# Altium integrated library Microchip Power Management MOSFET Driver.IntLib: 464 symbols (part 7 of 10)
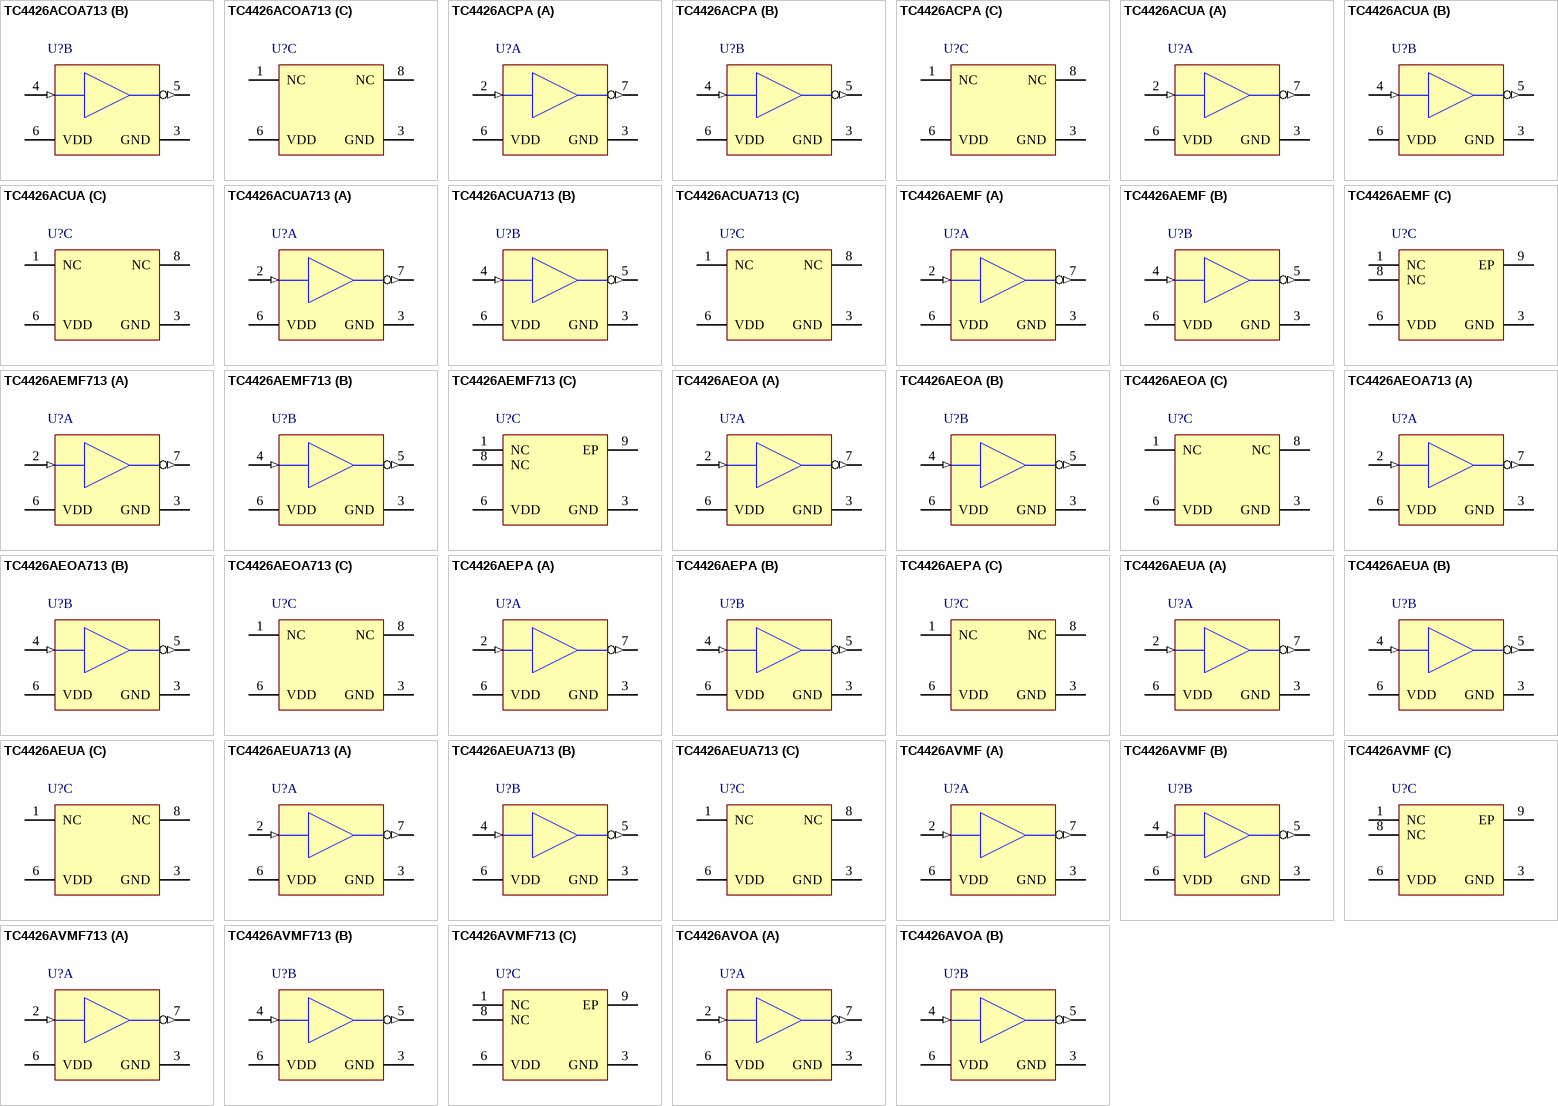
[diagram p31: symbols TC4426ACOA713 to TC4426AVOA]

## TC4426ACPA
designator U?
1.5A Dual High-Speed Power MOSFET Driver, Inverting, Commercial Temperature; DatasheetVersion: revF, Jan-2006; PackageVersion: revBB, Aug-2009; PackageReference: PDIP300-PA8; PackageDescription: 8-Lead Plastic Dual In-Line (PA) - 300 mil Body [PDIP]; Code_JEDEC: MS-001-BA; ComponentLink1Description: Manufacturer URL; ComponentLink1URL: http://www.microchip.com/; ComponentLink2Description: Datasheet; ComponentLink2URL: http://ww1.microchip.com/downloads/en/DeviceDoc/21423F.pdf; ComponentLink3Description: Package Specification; ComponentLink3URL: http://www.microchip.com/stellent/groups/techpub_sg/documents/packagingspec/en012702.pdf
footprint PDIP300-PA8 (DIP, 8-Leads, Row Spacing 7.62mm, Pitch 2.54mm, Body 9.5x6.6mm)
pins on every part: 3 GND (power), 6 VDD (power)
part A pins: 2 INA (in), 7 ~{OUTA} (out)
part B pins: 4 INB (in), 5 ~{OUTB} (out)
part C pins: 1 NC, 8 NC

## TC4426ACUA
designator U?
1.5A Dual High-Speed Power MOSFET Driver, Inverting, Commercial Temperature; DatasheetVersion: revF, Jan-2006; PackageVersion: revBB, Aug-2009; PackageReference: MSOP-UA8; PackageDescription: 8-Lead Plastic Micro Small Outline Package (UA) [MSOP]; Code_JEDEC: MO-187-AA; ComponentLink1Description: Manufacturer URL; ComponentLink1URL: http://www.microchip.com/; ComponentLink2Description: Datasheet; ComponentLink2URL: http://ww1.microchip.com/downloads/en/DeviceDoc/21423F.pdf; ComponentLink3Description: Package Specification; ComponentLink3URL: http://www.microchip.com/stellent/groups/techpub_sg/documents/packagingspec/en012702.pdf
footprint MSOP-UA8_N (TSOP, 8-Leads, Body 3x3mm, Pitch 0.65mm, IPC Medium Density)
footprint MSOP-UA8_L (TSOP, 8-Leads, Body 3x3mm, Pitch 0.65mm, IPC High Density)
footprint MSOP-UA8_M (TSOP, 8-Leads, Body 3x3mm, Pitch 0.65mm, IPC Low Density)
pins on every part: 3 GND (power), 6 VDD (power)
part A pins: 2 INA (in), 7 ~{OUTA} (out)
part B pins: 4 INB (in), 5 ~{OUTB} (out)
part C pins: 1 NC, 8 NC

## TC4426ACUA713
designator U?
1.5A Dual High-Speed Power MOSFET Driver, Inverting, Commercial Temperature, Tape and Reel; DatasheetVersion: revF, Jan-2006; PackageVersion: revBB, Aug-2009; PackageReference: MSOP-UA8; PackageDescription: 8-Lead Plastic Micro Small Outline Package (UA) [MSOP]; Code_JEDEC: MO-187-AA; ComponentLink1Description: Manufacturer URL; ComponentLink1URL: http://www.microchip.com/; ComponentLink2Description: Datasheet; ComponentLink2URL: http://ww1.microchip.com/downloads/en/DeviceDoc/21423F.pdf; ComponentLink3Description: Package Specification; ComponentLink3URL: http://www.microchip.com/stellent/groups/techpub_sg/documents/packagingspec/en012702.pdf
footprint MSOP-UA8_N (TSOP, 8-Leads, Body 3x3mm, Pitch 0.65mm, IPC Medium Density)
footprint MSOP-UA8_L (TSOP, 8-Leads, Body 3x3mm, Pitch 0.65mm, IPC High Density)
footprint MSOP-UA8_M (TSOP, 8-Leads, Body 3x3mm, Pitch 0.65mm, IPC Low Density)
pins on every part: 3 GND (power), 6 VDD (power)
part A pins: 2 INA (in), 7 ~{OUTA} (out)
part B pins: 4 INB (in), 5 ~{OUTB} (out)
part C pins: 1 NC, 8 NC

## TC4426AEMF
designator U?
1.5A Dual High-Speed Power MOSFET Driver, Inverting, Industrial Temperature; DatasheetVersion: revF, Jan-2006; PackageVersion: revBB, Aug-2009; PackageReference: DFN-MF8; PackageDescription: 8-Lead Plastic Dual Flat, No Lead Package (MF) - 3x3x0.9mm Body [DFN]; ComponentLink1Description: Manufacturer URL; ComponentLink1URL: http://www.microchip.com/; ComponentLink2Description: Datasheet; ComponentLink2URL: http://ww1.microchip.com/downloads/en/DeviceDoc/21423F.pdf; ComponentLink3Description: Package Specification; ComponentLink3URL: http://www.microchip.com/stellent/groups/techpub_sg/documents/packagingspec/en012702.pdf
footprint DFN-MF8 (SON, 8-Leads, Body 3x3mm, Pitch 0.65mm, Microchip Recommended)
pins on every part: 3 GND (power), 6 VDD (power)
part A pins: 2 INA (in), 7 ~{OUTA} (out)
part B pins: 4 INB (in), 5 ~{OUTB} (out)
part C pins: 1 NC, 8 NC, 9 EP

## TC4426AEMF713
designator U?
1.5A Dual High-Speed Power MOSFET Driver, Inverting, Industrial Temperature, Tape and Reel; DatasheetVersion: revF, Jan-2006; PackageVersion: revBB, Aug-2009; PackageReference: DFN-MF8; PackageDescription: 8-Lead Plastic Dual Flat, No Lead Package (MF) - 3x3x0.9mm Body [DFN]; ComponentLink1Description: Manufacturer URL; ComponentLink1URL: http://www.microchip.com/; ComponentLink2Description: Datasheet; ComponentLink2URL: http://ww1.microchip.com/downloads/en/DeviceDoc/21423F.pdf; ComponentLink3Description: Package Specification; ComponentLink3URL: http://www.microchip.com/stellent/groups/techpub_sg/documents/packagingspec/en012702.pdf
footprint DFN-MF8 (SON, 8-Leads, Body 3x3mm, Pitch 0.65mm, Microchip Recommended)
pins on every part: 3 GND (power), 6 VDD (power)
part A pins: 2 INA (in), 7 ~{OUTA} (out)
part B pins: 4 INB (in), 5 ~{OUTB} (out)
part C pins: 1 NC, 8 NC, 9 EP

## TC4426AEOA
designator U?
1.5A Dual High-Speed Power MOSFET Driver, Inverting, Industrial Temperature; DatasheetVersion: revF, Jan-2006; PackageVersion: revBB, Aug-2009; PackageReference: SOIC-OA8; PackageDescription: 8-Lead Plastic Small Outline (OA) - Narrow, 3.90mm Body [SOIC]; Code_IPC: SOIC127P600-8; ComponentLink1Description: Manufacturer URL; ComponentLink1URL: http://www.microchip.com/; ComponentLink2Description: Datasheet; ComponentLink2URL: http://ww1.microchip.com/downloads/en/DeviceDoc/21423F.pdf; ComponentLink3Description: Package Specification; ComponentLink3URL: http://www.microchip.com/stellent/groups/techpub_sg/documents/packagingspec/en012702.pdf
footprint SOIC-OA8_N (SOIC, 8-Leads, Body 4.9x3.9mm, Pitch 1.27mm, IPC Medium Density)
footprint SOIC-OA8_L (SOIC, 8-Leads, Body 4.9x3.9mm, Pitch 1.27mm, IPC High Density)
footprint SOIC-OA8_M (SOIC, 8-Leads, Body 4.9x3.9mm, Pitch 1.27mm, IPC Low Density)
pins on every part: 3 GND (power), 6 VDD (power)
part A pins: 2 INA (in), 7 ~{OUTA} (out)
part B pins: 4 INB (in), 5 ~{OUTB} (out)
part C pins: 1 NC, 8 NC

## TC4426AEOA713
designator U?
1.5A Dual High-Speed Power MOSFET Driver, Inverting, Industrial Temperature, Tape and Reel; DatasheetVersion: revD, Jan-2006; PackageVersion: revBB, Aug-2009; PackageReference: SOIC-OA8; PackageDescription: 8-Lead Plastic Small Outline (OA) - Narrow, 3.90mm Body [SOIC]; Code_IPC: SOIC127P600-8; ComponentLink1Description: Manufacturer URL; ComponentLink1URL: http://www.microchip.com/; ComponentLink2Description: Datasheet; ComponentLink2URL: http://ww1.microchip.com/downloads/en/DeviceDoc/21422D.pdf; ComponentLink3Description: Package Specification; ComponentLink3URL: http://www.microchip.com/stellent/groups/techpub_sg/documents/packagingspec/en012702.pdf
footprint SOIC-OA8_N (SOIC, 8-Leads, Body 4.9x3.9mm, Pitch 1.27mm, IPC Medium Density)
footprint SOIC-OA8_L (SOIC, 8-Leads, Body 4.9x3.9mm, Pitch 1.27mm, IPC High Density)
footprint SOIC-OA8_M (SOIC, 8-Leads, Body 4.9x3.9mm, Pitch 1.27mm, IPC Low Density)
pins on every part: 3 GND (power), 6 VDD (power)
part A pins: 2 INA (in), 7 ~{OUTA} (out)
part B pins: 4 INB (in), 5 ~{OUTB} (out)
part C pins: 1 NC, 8 NC

## TC4426AEPA
designator U?
1.5A Dual High-Speed Power MOSFET Driver, Inverting, Industrial Temperature; DatasheetVersion: revF, Jan-2006; PackageVersion: revBB, Aug-2009; PackageReference: PDIP300-PA8; PackageDescription: 8-Lead Plastic Dual In-Line (PA) - 300 mil Body [PDIP]; Code_JEDEC: MS-001-BA; ComponentLink1Description: Manufacturer URL; ComponentLink1URL: http://www.microchip.com/; ComponentLink2Description: Datasheet; ComponentLink2URL: http://ww1.microchip.com/downloads/en/DeviceDoc/21423F.pdf; ComponentLink3Description: Package Specification; ComponentLink3URL: http://www.microchip.com/stellent/groups/techpub_sg/documents/packagingspec/en012702.pdf
footprint PDIP300-PA8 (DIP, 8-Leads, Row Spacing 7.62mm, Pitch 2.54mm, Body 9.5x6.6mm)
pins on every part: 3 GND (power), 6 VDD (power)
part A pins: 2 INA (in), 7 ~{OUTA} (out)
part B pins: 4 INB (in), 5 ~{OUTB} (out)
part C pins: 1 NC, 8 NC

## TC4426AEUA
designator U?
1.5A Dual High-Speed Power MOSFET Driver, Inverting, Industrial Temperature; DatasheetVersion: revF, Jan-2006; PackageVersion: revBB, Aug-2009; PackageReference: MSOP-UA8; PackageDescription: 8-Lead Plastic Micro Small Outline Package (UA) [MSOP]; Code_JEDEC: MO-187-AA; ComponentLink1Description: Manufacturer URL; ComponentLink1URL: http://www.microchip.com/; ComponentLink2Description: Datasheet; ComponentLink2URL: http://ww1.microchip.com/downloads/en/DeviceDoc/21423F.pdf; ComponentLink3Description: Package Specification; ComponentLink3URL: http://www.microchip.com/stellent/groups/techpub_sg/documents/packagingspec/en012702.pdf
footprint MSOP-UA8_N (TSOP, 8-Leads, Body 3x3mm, Pitch 0.65mm, IPC Medium Density)
footprint MSOP-UA8_L (TSOP, 8-Leads, Body 3x3mm, Pitch 0.65mm, IPC High Density)
footprint MSOP-UA8_M (TSOP, 8-Leads, Body 3x3mm, Pitch 0.65mm, IPC Low Density)
pins on every part: 3 GND (power), 6 VDD (power)
part A pins: 2 INA (in), 7 ~{OUTA} (out)
part B pins: 4 INB (in), 5 ~{OUTB} (out)
part C pins: 1 NC, 8 NC

## TC4426AEUA713
designator U?
1.5A Dual High-Speed Power MOSFET Driver, Inverting, Industrial Temperature, Tape and Reel; DatasheetVersion: revF, Jan-2006; PackageVersion: revBB, Aug-2009; PackageReference: MSOP-UA8; PackageDescription: 8-Lead Plastic Micro Small Outline Package (UA) [MSOP]; Code_JEDEC: MO-187-AA; ComponentLink1Description: Manufacturer URL; ComponentLink1URL: http://www.microchip.com/; ComponentLink2Description: Datasheet; ComponentLink2URL: http://ww1.microchip.com/downloads/en/DeviceDoc/21423F.pdf; ComponentLink3Description: Package Specification; ComponentLink3URL: http://www.microchip.com/stellent/groups/techpub_sg/documents/packagingspec/en012702.pdf
footprint MSOP-UA8_N (TSOP, 8-Leads, Body 3x3mm, Pitch 0.65mm, IPC Medium Density)
footprint MSOP-UA8_L (TSOP, 8-Leads, Body 3x3mm, Pitch 0.65mm, IPC High Density)
footprint MSOP-UA8_M (TSOP, 8-Leads, Body 3x3mm, Pitch 0.65mm, IPC Low Density)
pins on every part: 3 GND (power), 6 VDD (power)
part A pins: 2 INA (in), 7 ~{OUTA} (out)
part B pins: 4 INB (in), 5 ~{OUTB} (out)
part C pins: 1 NC, 8 NC

## TC4426AVMF
designator U?
1.5A Dual High-Speed Power MOSFET Driver, Inverting, Extended Temperature; DatasheetVersion: revF, Jan-2006; PackageVersion: revBB, Aug-2009; PackageReference: DFN-MF8; PackageDescription: 8-Lead Plastic Dual Flat, No Lead Package (MF) - 3x3x0.9mm Body [DFN]; ComponentLink1Description: Manufacturer URL; ComponentLink1URL: http://www.microchip.com/; ComponentLink2Description: Datasheet; ComponentLink2URL: http://ww1.microchip.com/downloads/en/DeviceDoc/21423F.pdf; ComponentLink3Description: Package Specification; ComponentLink3URL: http://www.microchip.com/stellent/groups/techpub_sg/documents/packagingspec/en012702.pdf
footprint DFN-MF8 (SON, 8-Leads, Body 3x3mm, Pitch 0.65mm, Microchip Recommended)
pins on every part: 3 GND (power), 6 VDD (power)
part A pins: 2 INA (in), 7 ~{OUTA} (out)
part B pins: 4 INB (in), 5 ~{OUTB} (out)
part C pins: 1 NC, 8 NC, 9 EP

## TC4426AVMF713
designator U?
1.5A Dual High-Speed Power MOSFET Driver, Inverting, Extended Temperature, Tape and Reel; DatasheetVersion: revF, Jan-2006; PackageVersion: revBB, Aug-2009; PackageReference: DFN-MF8; PackageDescription: 8-Lead Plastic Dual Flat, No Lead Package (MF) - 3x3x0.9mm Body [DFN]; ComponentLink1Description: Manufacturer URL; ComponentLink1URL: http://www.microchip.com/; ComponentLink2Description: Datasheet; ComponentLink2URL: http://ww1.microchip.com/downloads/en/DeviceDoc/21423F.pdf; ComponentLink3Description: Package Specification; ComponentLink3URL: http://www.microchip.com/stellent/groups/techpub_sg/documents/packagingspec/en012702.pdf
footprint DFN-MF8 (SON, 8-Leads, Body 3x3mm, Pitch 0.65mm, Microchip Recommended)
pins on every part: 3 GND (power), 6 VDD (power)
part A pins: 2 INA (in), 7 ~{OUTA} (out)
part B pins: 4 INB (in), 5 ~{OUTB} (out)
part C pins: 1 NC, 8 NC, 9 EP

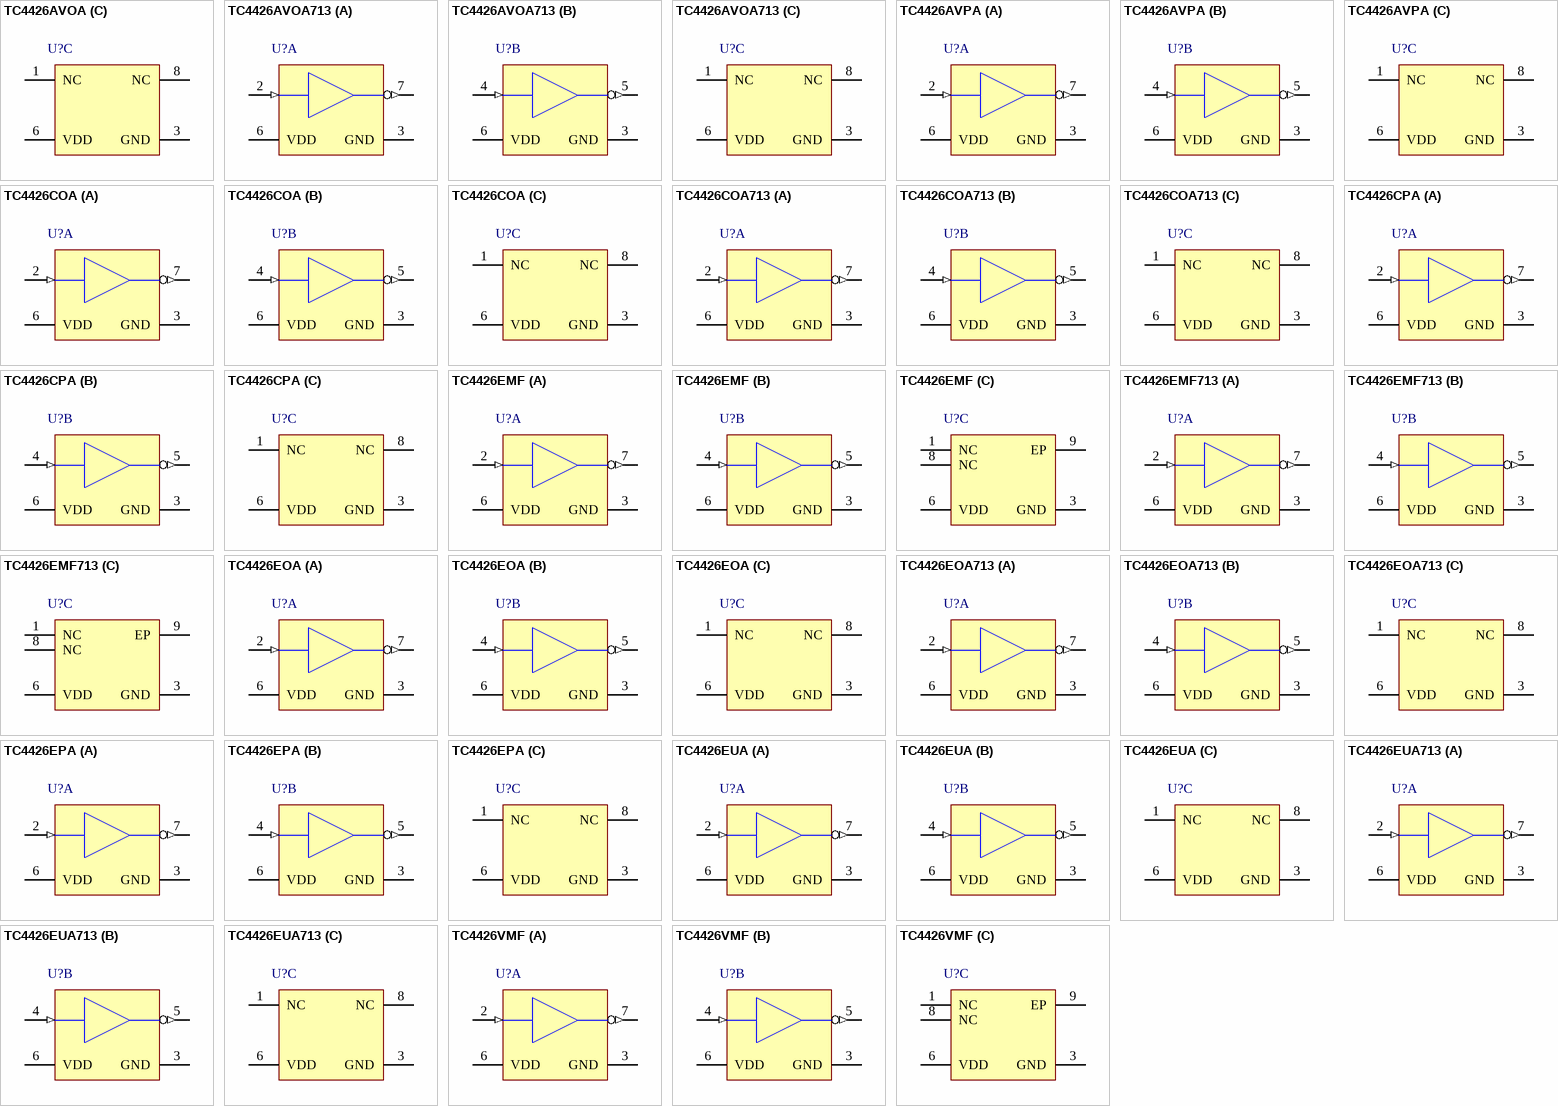
[diagram p16: symbols TC4426AVOA to TC4426VMF]

## TC4426AVOA
designator U?
1.5A Dual High-Speed Power MOSFET Driver, Inverting, Extended Temperature; DatasheetVersion: revF, Jan-2006; PackageVersion: revBB, Aug-2009; PackageReference: SOIC-OA8; PackageDescription: 8-Lead Plastic Small Outline (OA) - Narrow, 3.90mm Body [SOIC]; Code_IPC: SOIC127P600-8; ComponentLink1Description: Manufacturer URL; ComponentLink1URL: http://www.microchip.com/; ComponentLink2Description: Datasheet; ComponentLink2URL: http://ww1.microchip.com/downloads/en/DeviceDoc/21423F.pdf; ComponentLink3Description: Package Specification; ComponentLink3URL: http://www.microchip.com/stellent/groups/techpub_sg/documents/packagingspec/en012702.pdf
footprint SOIC-OA8_N (SOIC, 8-Leads, Body 4.9x3.9mm, Pitch 1.27mm, IPC Medium Density)
footprint SOIC-OA8_L (SOIC, 8-Leads, Body 4.9x3.9mm, Pitch 1.27mm, IPC High Density)
footprint SOIC-OA8_M (SOIC, 8-Leads, Body 4.9x3.9mm, Pitch 1.27mm, IPC Low Density)
pins on every part: 3 GND (power), 6 VDD (power)
part A pins: 2 INA (in), 7 ~{OUTA} (out)
part B pins: 4 INB (in), 5 ~{OUTB} (out)
part C pins: 1 NC, 8 NC

## TC4426AVOA713
designator U?
1.5A Dual High-Speed Power MOSFET Driver, Inverting, Extended Temperature, Tape and Reel; DatasheetVersion: revF, Jan-2006; PackageVersion: revBB, Aug-2009; PackageReference: SOIC-OA8; PackageDescription: 8-Lead Plastic Small Outline (OA) - Narrow, 3.90mm Body [SOIC]; Code_IPC: SOIC127P600-8; ComponentLink1Description: Manufacturer URL; ComponentLink1URL: http://www.microchip.com/; ComponentLink2Description: Datasheet; ComponentLink2URL: http://ww1.microchip.com/downloads/en/DeviceDoc/21423F.pdf; ComponentLink3Description: Package Specification; ComponentLink3URL: http://www.microchip.com/stellent/groups/techpub_sg/documents/packagingspec/en012702.pdf
footprint SOIC-OA8_N (SOIC, 8-Leads, Body 4.9x3.9mm, Pitch 1.27mm, IPC Medium Density)
footprint SOIC-OA8_L (SOIC, 8-Leads, Body 4.9x3.9mm, Pitch 1.27mm, IPC High Density)
footprint SOIC-OA8_M (SOIC, 8-Leads, Body 4.9x3.9mm, Pitch 1.27mm, IPC Low Density)
pins on every part: 3 GND (power), 6 VDD (power)
part A pins: 2 INA (in), 7 ~{OUTA} (out)
part B pins: 4 INB (in), 5 ~{OUTB} (out)
part C pins: 1 NC, 8 NC

## TC4426AVPA
designator U?
1.5A Dual High-Speed Power MOSFET Driver, Inverting, Extended Temperature; DatasheetVersion: revF, Jan-2006; PackageVersion: revBB, Aug-2009; PackageReference: PDIP300-PA8; PackageDescription: 8-Lead Plastic Dual In-Line (PA) - 300 mil Body [PDIP]; Code_JEDEC: MS-001-BA; ComponentLink1Description: Manufacturer URL; ComponentLink1URL: http://www.microchip.com/; ComponentLink2Description: Datasheet; ComponentLink2URL: http://ww1.microchip.com/downloads/en/DeviceDoc/21423F.pdf; ComponentLink3Description: Package Specification; ComponentLink3URL: http://www.microchip.com/stellent/groups/techpub_sg/documents/packagingspec/en012702.pdf
footprint PDIP300-PA8 (DIP, 8-Leads, Row Spacing 7.62mm, Pitch 2.54mm, Body 9.5x6.6mm)
pins on every part: 3 GND (power), 6 VDD (power)
part A pins: 2 INA (in), 7 ~{OUTA} (out)
part B pins: 4 INB (in), 5 ~{OUTB} (out)
part C pins: 1 NC, 8 NC

## TC4426COA
designator U?
1.5A Dual High-Speed Power MOSFET Driver, Inverting, Commercial Temperature; DatasheetVersion: revD, Jan-2006; PackageVersion: revBB, Aug-2009; PackageReference: SOIC-OA8; PackageDescription: 8-Lead Plastic Small Outline (OA) - Narrow, 3.90mm Body [SOIC]; Code_IPC: SOIC127P600-8; ComponentLink1Description: Manufacturer URL; ComponentLink1URL: http://www.microchip.com/; ComponentLink2Description: Datasheet; ComponentLink2URL: http://ww1.microchip.com/downloads/en/DeviceDoc/21422D.pdf; ComponentLink3Description: Package Specification; ComponentLink3URL: http://www.microchip.com/stellent/groups/techpub_sg/documents/packagingspec/en012702.pdf
footprint SOIC-OA8_N (SOIC, 8-Leads, Body 4.9x3.9mm, Pitch 1.27mm, IPC Medium Density)
footprint SOIC-OA8_L (SOIC, 8-Leads, Body 4.9x3.9mm, Pitch 1.27mm, IPC High Density)
footprint SOIC-OA8_M (SOIC, 8-Leads, Body 4.9x3.9mm, Pitch 1.27mm, IPC Low Density)
pins on every part: 3 GND (power), 6 VDD (power)
part A pins: 2 INA (in), 7 ~{OUTA} (out)
part B pins: 4 INB (in), 5 ~{OUTB} (out)
part C pins: 1 NC, 8 NC

## TC4426COA713
designator U?
1.5A Dual High-Speed Power MOSFET Driver, Inverting, Commercial Temperature, Tape and Reel; DatasheetVersion: revD, Jan-2006; PackageVersion: revBB, Aug-2009; PackageReference: SOIC-OA8; PackageDescription: 8-Lead Plastic Small Outline (OA) - Narrow, 3.90mm Body [SOIC]; Code_IPC: SOIC127P600-8; ComponentLink1Description: Manufacturer URL; ComponentLink1URL: http://www.microchip.com/; ComponentLink2Description: Datasheet; ComponentLink2URL: http://ww1.microchip.com/downloads/en/DeviceDoc/21422D.pdf; ComponentLink3Description: Package Specification; ComponentLink3URL: http://www.microchip.com/stellent/groups/techpub_sg/documents/packagingspec/en012702.pdf
footprint SOIC-OA8_N (SOIC, 8-Leads, Body 4.9x3.9mm, Pitch 1.27mm, IPC Medium Density)
footprint SOIC-OA8_L (SOIC, 8-Leads, Body 4.9x3.9mm, Pitch 1.27mm, IPC High Density)
footprint SOIC-OA8_M (SOIC, 8-Leads, Body 4.9x3.9mm, Pitch 1.27mm, IPC Low Density)
pins on every part: 3 GND (power), 6 VDD (power)
part A pins: 2 INA (in), 7 ~{OUTA} (out)
part B pins: 4 INB (in), 5 ~{OUTB} (out)
part C pins: 1 NC, 8 NC

## TC4426CPA
designator U?
1.5A Dual High-Speed Power MOSFET Driver, Inverting, Commercial Temperature; DatasheetVersion: revD, Jan-2006; PackageVersion: revBB, Aug-2009; PackageReference: PDIP300-PA8; PackageDescription: 8-Lead Plastic Dual In-Line (PA) - 300 mil Body [PDIP]; Code_JEDEC: MS-001-BA; ComponentLink1Description: Manufacturer URL; ComponentLink1URL: http://www.microchip.com/; ComponentLink2Description: Datasheet; ComponentLink2URL: http://ww1.microchip.com/downloads/en/DeviceDoc/21422D.pdf; ComponentLink3Description: Package Specification; ComponentLink3URL: http://www.microchip.com/stellent/groups/techpub_sg/documents/packagingspec/en012702.pdf
footprint PDIP300-PA8 (DIP, 8-Leads, Row Spacing 7.62mm, Pitch 2.54mm, Body 9.5x6.6mm)
pins on every part: 3 GND (power), 6 VDD (power)
part A pins: 2 INA (in), 7 ~{OUTA} (out)
part B pins: 4 INB (in), 5 ~{OUTB} (out)
part C pins: 1 NC, 8 NC

## TC4426EMF
designator U?
1.5A Dual High-Speed Power MOSFET Driver, Inverting, Industrial Temperature; DatasheetVersion: revD, Jan-2006; PackageVersion: revBB, Aug-2009; PackageReference: DFN-MF8; PackageDescription: 8-Lead Plastic Dual Flat, No Lead Package (MF) - 3x3x0.9mm Body [DFN]; ComponentLink1Description: Manufacturer URL; ComponentLink1URL: http://www.microchip.com/; ComponentLink2Description: Datasheet; ComponentLink2URL: http://ww1.microchip.com/downloads/en/DeviceDoc/21422D.pdf; ComponentLink3Description: Package Specification; ComponentLink3URL: http://www.microchip.com/stellent/groups/techpub_sg/documents/packagingspec/en012702.pdf
footprint DFN-MF8 (SON, 8-Leads, Body 3x3mm, Pitch 0.65mm, Microchip Recommended)
pins on every part: 3 GND (power), 6 VDD (power)
part A pins: 2 INA (in), 7 ~{OUTA} (out)
part B pins: 4 INB (in), 5 ~{OUTB} (out)
part C pins: 1 NC, 8 NC, 9 EP

## TC4426EMF713
designator U?
1.5A Dual High-Speed Power MOSFET Driver, Inverting, Industrial Temperature, Tape and Reel; DatasheetVersion: revD, Jan-2006; PackageVersion: revBB, Aug-2009; PackageReference: DFN-MF8; PackageDescription: 8-Lead Plastic Dual Flat, No Lead Package (MF) - 3x3x0.9mm Body [DFN]; ComponentLink1Description: Manufacturer URL; ComponentLink1URL: http://www.microchip.com/; ComponentLink2Description: Datasheet; ComponentLink2URL: http://ww1.microchip.com/downloads/en/DeviceDoc/21422D.pdf; ComponentLink3Description: Package Specification; ComponentLink3URL: http://www.microchip.com/stellent/groups/techpub_sg/documents/packagingspec/en012702.pdf
footprint DFN-MF8 (SON, 8-Leads, Body 3x3mm, Pitch 0.65mm, Microchip Recommended)
pins on every part: 3 GND (power), 6 VDD (power)
part A pins: 2 INA (in), 7 ~{OUTA} (out)
part B pins: 4 INB (in), 5 ~{OUTB} (out)
part C pins: 1 NC, 8 NC, 9 EP

## TC4426EOA
designator U?
1.5A Dual High-Speed Power MOSFET Driver, Inverting, Industrial Temperature; DatasheetVersion: revD, Jan-2006; PackageVersion: revBB, Aug-2009; PackageReference: SOIC-OA8; PackageDescription: 8-Lead Plastic Small Outline (OA) - Narrow, 3.90mm Body [SOIC]; Code_IPC: SOIC127P600-8; ComponentLink1Description: Manufacturer URL; ComponentLink1URL: http://www.microchip.com/; ComponentLink2Description: Datasheet; ComponentLink2URL: http://ww1.microchip.com/downloads/en/DeviceDoc/21422D.pdf; ComponentLink3Description: Package Specification; ComponentLink3URL: http://www.microchip.com/stellent/groups/techpub_sg/documents/packagingspec/en012702.pdf
footprint SOIC-OA8_N (SOIC, 8-Leads, Body 4.9x3.9mm, Pitch 1.27mm, IPC Medium Density)
footprint SOIC-OA8_L (SOIC, 8-Leads, Body 4.9x3.9mm, Pitch 1.27mm, IPC High Density)
footprint SOIC-OA8_M (SOIC, 8-Leads, Body 4.9x3.9mm, Pitch 1.27mm, IPC Low Density)
pins on every part: 3 GND (power), 6 VDD (power)
part A pins: 2 INA (in), 7 ~{OUTA} (out)
part B pins: 4 INB (in), 5 ~{OUTB} (out)
part C pins: 1 NC, 8 NC

## TC4426EOA713
designator U?
1.5A Dual High-Speed Power MOSFET Driver, Inverting, Industrial Temperature, Tape and Reel; DatasheetVersion: revD, Jan-2006; PackageVersion: revBB, Aug-2009; PackageReference: SOIC-OA8; PackageDescription: 8-Lead Plastic Small Outline (OA) - Narrow, 3.90mm Body [SOIC]; Code_IPC: SOIC127P600-8; ComponentLink1Description: Manufacturer URL; ComponentLink1URL: http://www.microchip.com/; ComponentLink2Description: Datasheet; ComponentLink2URL: http://ww1.microchip.com/downloads/en/DeviceDoc/21422D.pdf; ComponentLink3Description: Package Specification; ComponentLink3URL: http://www.microchip.com/stellent/groups/techpub_sg/documents/packagingspec/en012702.pdf
footprint SOIC-OA8_N (SOIC, 8-Leads, Body 4.9x3.9mm, Pitch 1.27mm, IPC Medium Density)
footprint SOIC-OA8_L (SOIC, 8-Leads, Body 4.9x3.9mm, Pitch 1.27mm, IPC High Density)
footprint SOIC-OA8_M (SOIC, 8-Leads, Body 4.9x3.9mm, Pitch 1.27mm, IPC Low Density)
pins on every part: 3 GND (power), 6 VDD (power)
part A pins: 2 INA (in), 7 ~{OUTA} (out)
part B pins: 4 INB (in), 5 ~{OUTB} (out)
part C pins: 1 NC, 8 NC

## TC4426EPA
designator U?
1.5A Dual High-Speed Power MOSFET Driver, Inverting, Industrial Temperature; DatasheetVersion: revD, Jan-2006; PackageVersion: revBB, Aug-2009; PackageReference: PDIP300-PA8; PackageDescription: 8-Lead Plastic Dual In-Line (PA) - 300 mil Body [PDIP]; Code_JEDEC: MS-001-BA; ComponentLink1Description: Manufacturer URL; ComponentLink1URL: http://www.microchip.com/; ComponentLink2Description: Datasheet; ComponentLink2URL: http://ww1.microchip.com/downloads/en/DeviceDoc/21422D.pdf; ComponentLink3Description: Package Specification; ComponentLink3URL: http://www.microchip.com/stellent/groups/techpub_sg/documents/packagingspec/en012702.pdf
footprint PDIP300-PA8 (DIP, 8-Leads, Row Spacing 7.62mm, Pitch 2.54mm, Body 9.5x6.6mm)
pins on every part: 3 GND (power), 6 VDD (power)
part A pins: 2 INA (in), 7 ~{OUTA} (out)
part B pins: 4 INB (in), 5 ~{OUTB} (out)
part C pins: 1 NC, 8 NC

## TC4426EUA
designator U?
1.5A Dual High-Speed Power MOSFET Driver, Inverting, Industrial Temperature; DatasheetVersion: revD, Jan-2006; PackageVersion: revBB, Aug-2009; PackageReference: MSOP-UA8; PackageDescription: 8-Lead Plastic Micro Small Outline Package (UA) [MSOP]; Code_JEDEC: MO-187-AA; ComponentLink1Description: Manufacturer URL; ComponentLink1URL: http://www.microchip.com/; ComponentLink2Description: Datasheet; ComponentLink2URL: http://ww1.microchip.com/downloads/en/DeviceDoc/21422D.pdf; ComponentLink3Description: Package Specification; ComponentLink3URL: http://www.microchip.com/stellent/groups/techpub_sg/documents/packagingspec/en012702.pdf
footprint MSOP-UA8_N (TSOP, 8-Leads, Body 3x3mm, Pitch 0.65mm, IPC Medium Density)
footprint MSOP-UA8_L (TSOP, 8-Leads, Body 3x3mm, Pitch 0.65mm, IPC High Density)
footprint MSOP-UA8_M (TSOP, 8-Leads, Body 3x3mm, Pitch 0.65mm, IPC Low Density)
pins on every part: 3 GND (power), 6 VDD (power)
part A pins: 2 INA (in), 7 ~{OUTA} (out)
part B pins: 4 INB (in), 5 ~{OUTB} (out)
part C pins: 1 NC, 8 NC

## TC4426EUA713
designator U?
1.5A Dual High-Speed Power MOSFET Driver, Inverting, Industrial Temperature, Tape and Reel; DatasheetVersion: revD, Jan-2006; PackageVersion: revBB, Aug-2009; PackageReference: MSOP-UA8; PackageDescription: 8-Lead Plastic Micro Small Outline Package (UA) [MSOP]; Code_JEDEC: MO-187-AA; ComponentLink1Description: Manufacturer URL; ComponentLink1URL: http://www.microchip.com/; ComponentLink2Description: Datasheet; ComponentLink2URL: http://ww1.microchip.com/downloads/en/DeviceDoc/21422D.pdf; ComponentLink3Description: Package Specification; ComponentLink3URL: http://www.microchip.com/stellent/groups/techpub_sg/documents/packagingspec/en012702.pdf
footprint MSOP-UA8_N (TSOP, 8-Leads, Body 3x3mm, Pitch 0.65mm, IPC Medium Density)
footprint MSOP-UA8_L (TSOP, 8-Leads, Body 3x3mm, Pitch 0.65mm, IPC High Density)
footprint MSOP-UA8_M (TSOP, 8-Leads, Body 3x3mm, Pitch 0.65mm, IPC Low Density)
pins on every part: 3 GND (power), 6 VDD (power)
part A pins: 2 INA (in), 7 ~{OUTA} (out)
part B pins: 4 INB (in), 5 ~{OUTB} (out)
part C pins: 1 NC, 8 NC

## TC4426VMF
designator U?
1.5A Dual High-Speed Power MOSFET Driver, Inverting, Extended Temperature; DatasheetVersion: revD, Jan-2006; PackageVersion: revBB, Aug-2009; PackageReference: DFN-MF8; PackageDescription: 8-Lead Plastic Dual Flat, No Lead Package (MF) - 3x3x0.9mm Body [DFN]; ComponentLink1Description: Manufacturer URL; ComponentLink1URL: http://www.microchip.com/; ComponentLink2Description: Datasheet; ComponentLink2URL: http://ww1.microchip.com/downloads/en/DeviceDoc/21422D.pdf; ComponentLink3Description: Package Specification; ComponentLink3URL: http://www.microchip.com/stellent/groups/techpub_sg/documents/packagingspec/en012702.pdf
footprint DFN-MF8 (SON, 8-Leads, Body 3x3mm, Pitch 0.65mm, Microchip Recommended)
pins on every part: 3 GND (power), 6 VDD (power)
part A pins: 2 INA (in), 7 ~{OUTA} (out)
part B pins: 4 INB (in), 5 ~{OUTB} (out)
part C pins: 1 NC, 8 NC, 9 EP

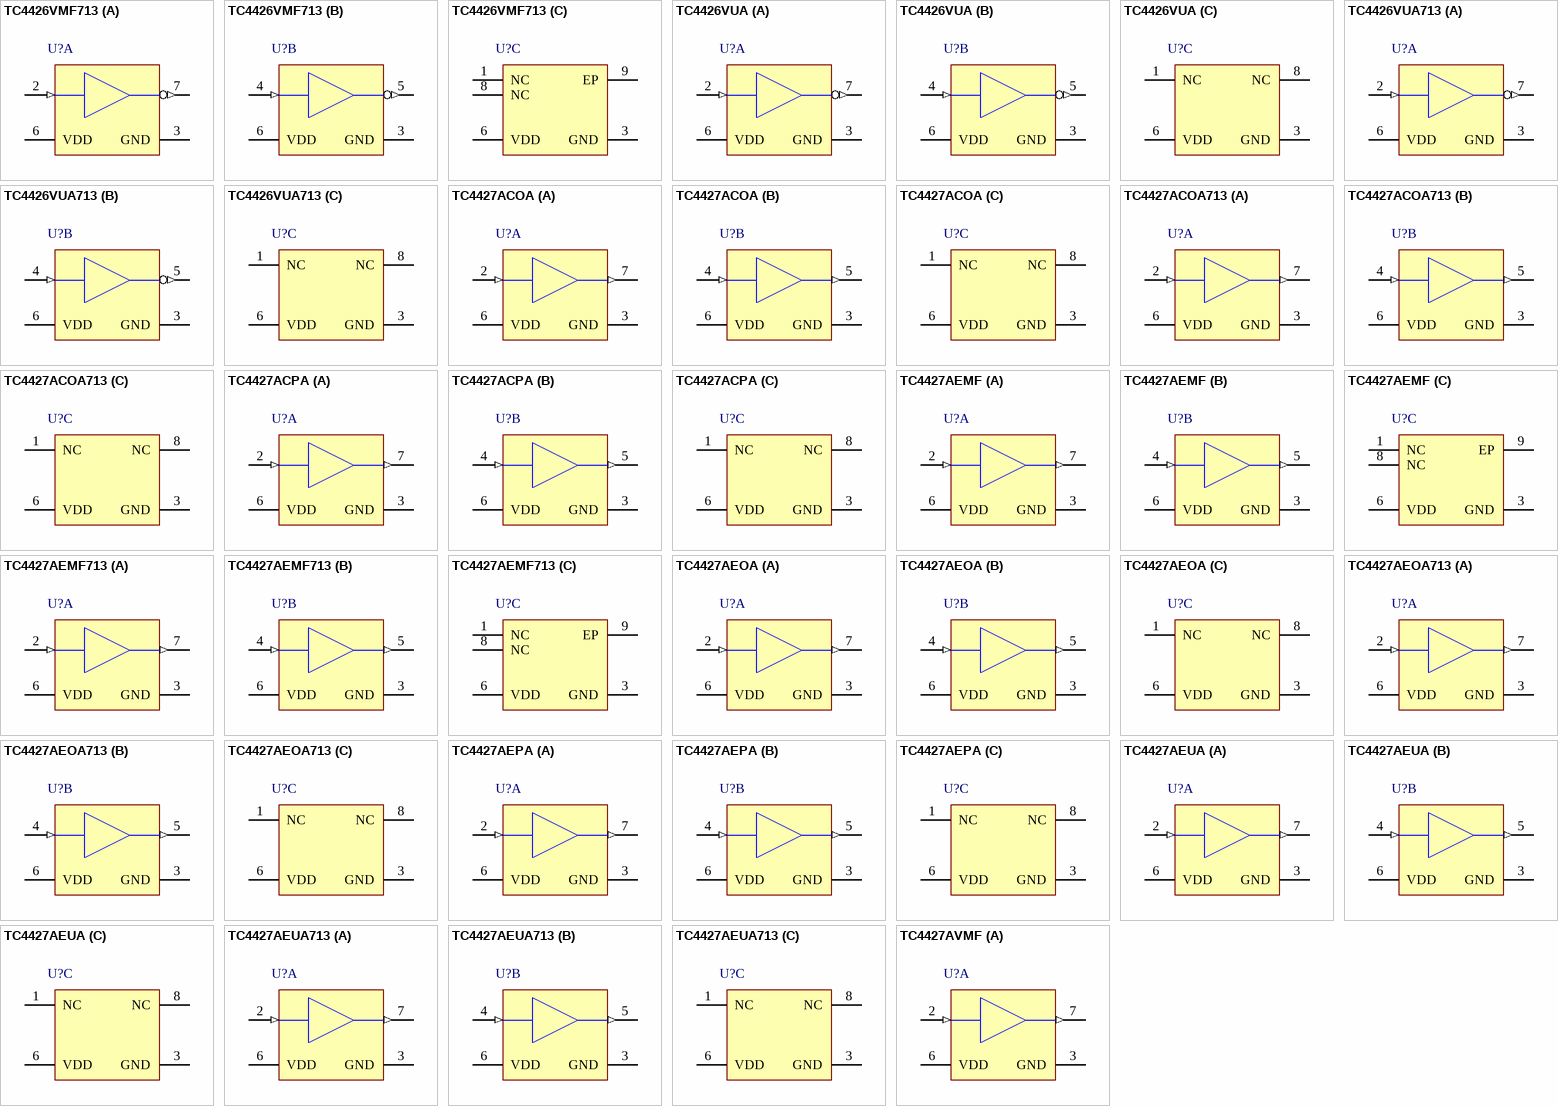
[diagram p17: symbols TC4426VMF713 to TC4427AVMF]

## TC4426VMF713
designator U?
1.5A Dual High-Speed Power MOSFET Driver, Inverting, Extended Temperature, Tape and Reel; DatasheetVersion: revD, Jan-2006; PackageVersion: revBB, Aug-2009; PackageReference: DFN-MF8; PackageDescription: 8-Lead Plastic Dual Flat, No Lead Package (MF) - 3x3x0.9mm Body [DFN]; ComponentLink1Description: Manufacturer URL; ComponentLink1URL: http://www.microchip.com/; ComponentLink2Description: Datasheet; ComponentLink2URL: http://ww1.microchip.com/downloads/en/DeviceDoc/21422D.pdf; ComponentLink3Description: Package Specification; ComponentLink3URL: http://www.microchip.com/stellent/groups/techpub_sg/documents/packagingspec/en012702.pdf
footprint DFN-MF8 (SON, 8-Leads, Body 3x3mm, Pitch 0.65mm, Microchip Recommended)
pins on every part: 3 GND (power), 6 VDD (power)
part A pins: 2 INA (in), 7 ~{OUTA} (out)
part B pins: 4 INB (in), 5 ~{OUTB} (out)
part C pins: 1 NC, 8 NC, 9 EP

## TC4426VUA
designator U?
1.5A Dual High-Speed Power MOSFET Driver, Inverting, Extended Temperature; DatasheetVersion: revD, Jan-2006; PackageVersion: revBB, Aug-2009; PackageReference: MSOP-UA8; PackageDescription: 8-Lead Plastic Micro Small Outline Package (UA) [MSOP]; Code_JEDEC: MO-187-AA; ComponentLink1Description: Manufacturer URL; ComponentLink1URL: http://www.microchip.com/; ComponentLink2Description: Datasheet; ComponentLink2URL: http://ww1.microchip.com/downloads/en/DeviceDoc/21422D.pdf; ComponentLink3Description: Package Specification; ComponentLink3URL: http://www.microchip.com/stellent/groups/techpub_sg/documents/packagingspec/en012702.pdf
footprint MSOP-UA8_N (TSOP, 8-Leads, Body 3x3mm, Pitch 0.65mm, IPC Medium Density)
footprint MSOP-UA8_L (TSOP, 8-Leads, Body 3x3mm, Pitch 0.65mm, IPC High Density)
footprint MSOP-UA8_M (TSOP, 8-Leads, Body 3x3mm, Pitch 0.65mm, IPC Low Density)
pins on every part: 3 GND (power), 6 VDD (power)
part A pins: 2 INA (in), 7 ~{OUTA} (out)
part B pins: 4 INB (in), 5 ~{OUTB} (out)
part C pins: 1 NC, 8 NC

## TC4426VUA713
designator U?
1.5A Dual High-Speed Power MOSFET Driver, Inverting, Extended Temperature, Tape and Reel; DatasheetVersion: revD, Jan-2006; PackageVersion: revBB, Aug-2009; PackageReference: MSOP-UA8; PackageDescription: 8-Lead Plastic Micro Small Outline Package (UA) [MSOP]; Code_JEDEC: MO-187-AA; ComponentLink1Description: Manufacturer URL; ComponentLink1URL: http://www.microchip.com/; ComponentLink2Description: Datasheet; ComponentLink2URL: http://ww1.microchip.com/downloads/en/DeviceDoc/21422D.pdf; ComponentLink3Description: Package Specification; ComponentLink3URL: http://www.microchip.com/stellent/groups/techpub_sg/documents/packagingspec/en012702.pdf
footprint MSOP-UA8_N (TSOP, 8-Leads, Body 3x3mm, Pitch 0.65mm, IPC Medium Density)
footprint MSOP-UA8_L (TSOP, 8-Leads, Body 3x3mm, Pitch 0.65mm, IPC High Density)
footprint MSOP-UA8_M (TSOP, 8-Leads, Body 3x3mm, Pitch 0.65mm, IPC Low Density)
pins on every part: 3 GND (power), 6 VDD (power)
part A pins: 2 INA (in), 7 ~{OUTA} (out)
part B pins: 4 INB (in), 5 ~{OUTB} (out)
part C pins: 1 NC, 8 NC

## TC4427ACOA
designator U?
1.5A Dual High-Speed Power MOSFET Driver, Non-Inverting, Commercial Temperature; DatasheetVersion: revF, Jan-2006; PackageVersion: revBB, Aug-2009; PackageReference: SOIC-OA8; PackageDescription: 8-Lead Plastic Small Outline (OA) - Narrow, 3.90mm Body [SOIC]; Code_IPC: SOIC127P600-8; ComponentLink1Description: Manufacturer URL; ComponentLink1URL: http://www.microchip.com/; ComponentLink2Description: Datasheet; ComponentLink2URL: http://ww1.microchip.com/downloads/en/DeviceDoc/21423F.pdf; ComponentLink3Description: Package Specification; ComponentLink3URL: http://www.microchip.com/stellent/groups/techpub_sg/documents/packagingspec/en012702.pdf
footprint SOIC-OA8_N (SOIC, 8-Leads, Body 4.9x3.9mm, Pitch 1.27mm, IPC Medium Density)
footprint SOIC-OA8_L (SOIC, 8-Leads, Body 4.9x3.9mm, Pitch 1.27mm, IPC High Density)
footprint SOIC-OA8_M (SOIC, 8-Leads, Body 4.9x3.9mm, Pitch 1.27mm, IPC Low Density)
pins on every part: 3 GND (power), 6 VDD (power)
part A pins: 2 INA (in), 7 OUTA (out)
part B pins: 4 INB (in), 5 OUTB (out)
part C pins: 1 NC, 8 NC

## TC4427ACOA713
designator U?
1.5A Dual High-Speed Power MOSFET Driver, Non-Inverting, Commercial Temperature, Tape and Reel; DatasheetVersion: revD, Jan-2006; PackageVersion: revBB, Aug-2009; PackageReference: SOIC-OA8; PackageDescription: 8-Lead Plastic Small Outline (OA) - Narrow, 3.90mm Body [SOIC]; Code_IPC: SOIC127P600-8; ComponentLink1Description: Manufacturer URL; ComponentLink1URL: http://www.microchip.com/; ComponentLink2Description: Datasheet; ComponentLink2URL: http://ww1.microchip.com/downloads/en/DeviceDoc/21422D.pdf; ComponentLink3Description: Package Specification; ComponentLink3URL: http://www.microchip.com/stellent/groups/techpub_sg/documents/packagingspec/en012702.pdf
footprint SOIC-OA8_N (SOIC, 8-Leads, Body 4.9x3.9mm, Pitch 1.27mm, IPC Medium Density)
footprint SOIC-OA8_L (SOIC, 8-Leads, Body 4.9x3.9mm, Pitch 1.27mm, IPC High Density)
footprint SOIC-OA8_M (SOIC, 8-Leads, Body 4.9x3.9mm, Pitch 1.27mm, IPC Low Density)
pins on every part: 3 GND (power), 6 VDD (power)
part A pins: 2 INA (in), 7 OUTA (out)
part B pins: 4 INB (in), 5 OUTB (out)
part C pins: 1 NC, 8 NC

## TC4427ACPA
designator U?
1.5A Dual High-Speed Power MOSFET Driver, Non-Inverting, Commercial Temperature; DatasheetVersion: revF, Jan-2006; PackageVersion: revBB, Aug-2009; PackageReference: PDIP300-PA8; PackageDescription: 8-Lead Plastic Dual In-Line (PA) - 300 mil Body [PDIP]; Code_JEDEC: MS-001-BA; ComponentLink1Description: Manufacturer URL; ComponentLink1URL: http://www.microchip.com/; ComponentLink2Description: Datasheet; ComponentLink2URL: http://ww1.microchip.com/downloads/en/DeviceDoc/21423F.pdf; ComponentLink3Description: Package Specification; ComponentLink3URL: http://www.microchip.com/stellent/groups/techpub_sg/documents/packagingspec/en012702.pdf
footprint PDIP300-PA8 (DIP, 8-Leads, Row Spacing 7.62mm, Pitch 2.54mm, Body 9.5x6.6mm)
pins on every part: 3 GND (power), 6 VDD (power)
part A pins: 2 INA (in), 7 OUTA (out)
part B pins: 4 INB (in), 5 OUTB (out)
part C pins: 1 NC, 8 NC

## TC4427AEMF
designator U?
1.5A Dual High-Speed Power MOSFET Driver, Non-Inverting, Industrial Temperature; DatasheetVersion: revF, Jan-2006; PackageVersion: revBB, Aug-2009; PackageReference: DFN-MF8; PackageDescription: 8-Lead Plastic Dual Flat, No Lead Package (MF) - 3x3x0.9mm Body [DFN]; ComponentLink1Description: Manufacturer URL; ComponentLink1URL: http://www.microchip.com/; ComponentLink2Description: Datasheet; ComponentLink2URL: http://ww1.microchip.com/downloads/en/DeviceDoc/21423F.pdf; ComponentLink3Description: Package Specification; ComponentLink3URL: http://www.microchip.com/stellent/groups/techpub_sg/documents/packagingspec/en012702.pdf
footprint DFN-MF8 (SON, 8-Leads, Body 3x3mm, Pitch 0.65mm, Microchip Recommended)
pins on every part: 3 GND (power), 6 VDD (power)
part A pins: 2 INA (in), 7 OUTA (out)
part B pins: 4 INB (in), 5 OUTB (out)
part C pins: 1 NC, 8 NC, 9 EP

## TC4427AEMF713
designator U?
1.5A Dual High-Speed Power MOSFET Driver, Non-Inverting, Industrial Temperature, Tape and Reel; DatasheetVersion: revF, Jan-2006; PackageVersion: revBB, Aug-2009; PackageReference: DFN-MF8; PackageDescription: 8-Lead Plastic Dual Flat, No Lead Package (MF) - 3x3x0.9mm Body [DFN]; ComponentLink1Description: Manufacturer URL; ComponentLink1URL: http://www.microchip.com/; ComponentLink2Description: Datasheet; ComponentLink2URL: http://ww1.microchip.com/downloads/en/DeviceDoc/21423F.pdf; ComponentLink3Description: Package Specification; ComponentLink3URL: http://www.microchip.com/stellent/groups/techpub_sg/documents/packagingspec/en012702.pdf
footprint DFN-MF8 (SON, 8-Leads, Body 3x3mm, Pitch 0.65mm, Microchip Recommended)
pins on every part: 3 GND (power), 6 VDD (power)
part A pins: 2 INA (in), 7 OUTA (out)
part B pins: 4 INB (in), 5 OUTB (out)
part C pins: 1 NC, 8 NC, 9 EP

## TC4427AEOA
designator U?
1.5A Dual High-Speed Power MOSFET Driver, Non-Inverting, Industrial Temperature; DatasheetVersion: revF, Jan-2006; PackageVersion: revBB, Aug-2009; PackageReference: SOIC-OA8; PackageDescription: 8-Lead Plastic Small Outline (OA) - Narrow, 3.90mm Body [SOIC]; Code_IPC: SOIC127P600-8; ComponentLink1Description: Manufacturer URL; ComponentLink1URL: http://www.microchip.com/; ComponentLink2Description: Datasheet; ComponentLink2URL: http://ww1.microchip.com/downloads/en/DeviceDoc/21423F.pdf; ComponentLink3Description: Package Specification; ComponentLink3URL: http://www.microchip.com/stellent/groups/techpub_sg/documents/packagingspec/en012702.pdf
footprint SOIC-OA8_N (SOIC, 8-Leads, Body 4.9x3.9mm, Pitch 1.27mm, IPC Medium Density)
footprint SOIC-OA8_L (SOIC, 8-Leads, Body 4.9x3.9mm, Pitch 1.27mm, IPC High Density)
footprint SOIC-OA8_M (SOIC, 8-Leads, Body 4.9x3.9mm, Pitch 1.27mm, IPC Low Density)
pins on every part: 3 GND (power), 6 VDD (power)
part A pins: 2 INA (in), 7 OUTA (out)
part B pins: 4 INB (in), 5 OUTB (out)
part C pins: 1 NC, 8 NC

## TC4427AEOA713
designator U?
1.5A Dual High-Speed Power MOSFET Driver, Non-Inverting, Industrial Temperature, Tape and Reel; DatasheetVersion: revD, Jan-2006; PackageVersion: revBB, Aug-2009; PackageReference: SOIC-OA8; PackageDescription: 8-Lead Plastic Small Outline (OA) - Narrow, 3.90mm Body [SOIC]; Code_IPC: SOIC127P600-8; ComponentLink1Description: Manufacturer URL; ComponentLink1URL: http://www.microchip.com/; ComponentLink2Description: Datasheet; ComponentLink2URL: http://ww1.microchip.com/downloads/en/DeviceDoc/21422D.pdf; ComponentLink3Description: Package Specification; ComponentLink3URL: http://www.microchip.com/stellent/groups/techpub_sg/documents/packagingspec/en012702.pdf
footprint SOIC-OA8_N (SOIC, 8-Leads, Body 4.9x3.9mm, Pitch 1.27mm, IPC Medium Density)
footprint SOIC-OA8_L (SOIC, 8-Leads, Body 4.9x3.9mm, Pitch 1.27mm, IPC High Density)
footprint SOIC-OA8_M (SOIC, 8-Leads, Body 4.9x3.9mm, Pitch 1.27mm, IPC Low Density)
pins on every part: 3 GND (power), 6 VDD (power)
part A pins: 2 INA (in), 7 OUTA (out)
part B pins: 4 INB (in), 5 OUTB (out)
part C pins: 1 NC, 8 NC

## TC4427AEPA
designator U?
1.5A Dual High-Speed Power MOSFET Driver, Non-Inverting, Industrial Temperature; DatasheetVersion: revF, Jan-2006; PackageVersion: revBB, Aug-2009; PackageReference: PDIP300-PA8; PackageDescription: 8-Lead Plastic Dual In-Line (PA) - 300 mil Body [PDIP]; Code_JEDEC: MS-001-BA; ComponentLink1Description: Manufacturer URL; ComponentLink1URL: http://www.microchip.com/; ComponentLink2Description: Datasheet; ComponentLink2URL: http://ww1.microchip.com/downloads/en/DeviceDoc/21423F.pdf; ComponentLink3Description: Package Specification; ComponentLink3URL: http://www.microchip.com/stellent/groups/techpub_sg/documents/packagingspec/en012702.pdf
footprint PDIP300-PA8 (DIP, 8-Leads, Row Spacing 7.62mm, Pitch 2.54mm, Body 9.5x6.6mm)
pins on every part: 3 GND (power), 6 VDD (power)
part A pins: 2 INA (in), 7 OUTA (out)
part B pins: 4 INB (in), 5 OUTB (out)
part C pins: 1 NC, 8 NC

## TC4427AEUA
designator U?
1.5A Dual High-Speed Power MOSFET Driver, Non-Inverting, Industrial Temperature; DatasheetVersion: revF, Jan-2006; PackageVersion: revBB, Aug-2009; PackageReference: MSOP-UA8; PackageDescription: 8-Lead Plastic Micro Small Outline Package (UA) [MSOP]; Code_JEDEC: MO-187-AA; ComponentLink1Description: Manufacturer URL; ComponentLink1URL: http://www.microchip.com/; ComponentLink2Description: Datasheet; ComponentLink2URL: http://ww1.microchip.com/downloads/en/DeviceDoc/21423F.pdf; ComponentLink3Description: Package Specification; ComponentLink3URL: http://www.microchip.com/stellent/groups/techpub_sg/documents/packagingspec/en012702.pdf
footprint MSOP-UA8_N (TSOP, 8-Leads, Body 3x3mm, Pitch 0.65mm, IPC Medium Density)
footprint MSOP-UA8_L (TSOP, 8-Leads, Body 3x3mm, Pitch 0.65mm, IPC High Density)
footprint MSOP-UA8_M (TSOP, 8-Leads, Body 3x3mm, Pitch 0.65mm, IPC Low Density)
pins on every part: 3 GND (power), 6 VDD (power)
part A pins: 2 INA (in), 7 OUTA (out)
part B pins: 4 INB (in), 5 OUTB (out)
part C pins: 1 NC, 8 NC

## TC4427AEUA713
designator U?
1.5A Dual High-Speed Power MOSFET Driver, Non-Inverting, Industrial Temperature, Tape and Reel; DatasheetVersion: revF, Jan-2006; PackageVersion: revBB, Aug-2009; PackageReference: MSOP-UA8; PackageDescription: 8-Lead Plastic Micro Small Outline Package (UA) [MSOP]; Code_JEDEC: MO-187-AA; ComponentLink1Description: Manufacturer URL; ComponentLink1URL: http://www.microchip.com/; ComponentLink2Description: Datasheet; ComponentLink2URL: http://ww1.microchip.com/downloads/en/DeviceDoc/21423F.pdf; ComponentLink3Description: Package Specification; ComponentLink3URL: http://www.microchip.com/stellent/groups/techpub_sg/documents/packagingspec/en012702.pdf
footprint MSOP-UA8_N (TSOP, 8-Leads, Body 3x3mm, Pitch 0.65mm, IPC Medium Density)
footprint MSOP-UA8_L (TSOP, 8-Leads, Body 3x3mm, Pitch 0.65mm, IPC High Density)
footprint MSOP-UA8_M (TSOP, 8-Leads, Body 3x3mm, Pitch 0.65mm, IPC Low Density)
pins on every part: 3 GND (power), 6 VDD (power)
part A pins: 2 INA (in), 7 OUTA (out)
part B pins: 4 INB (in), 5 OUTB (out)
part C pins: 1 NC, 8 NC

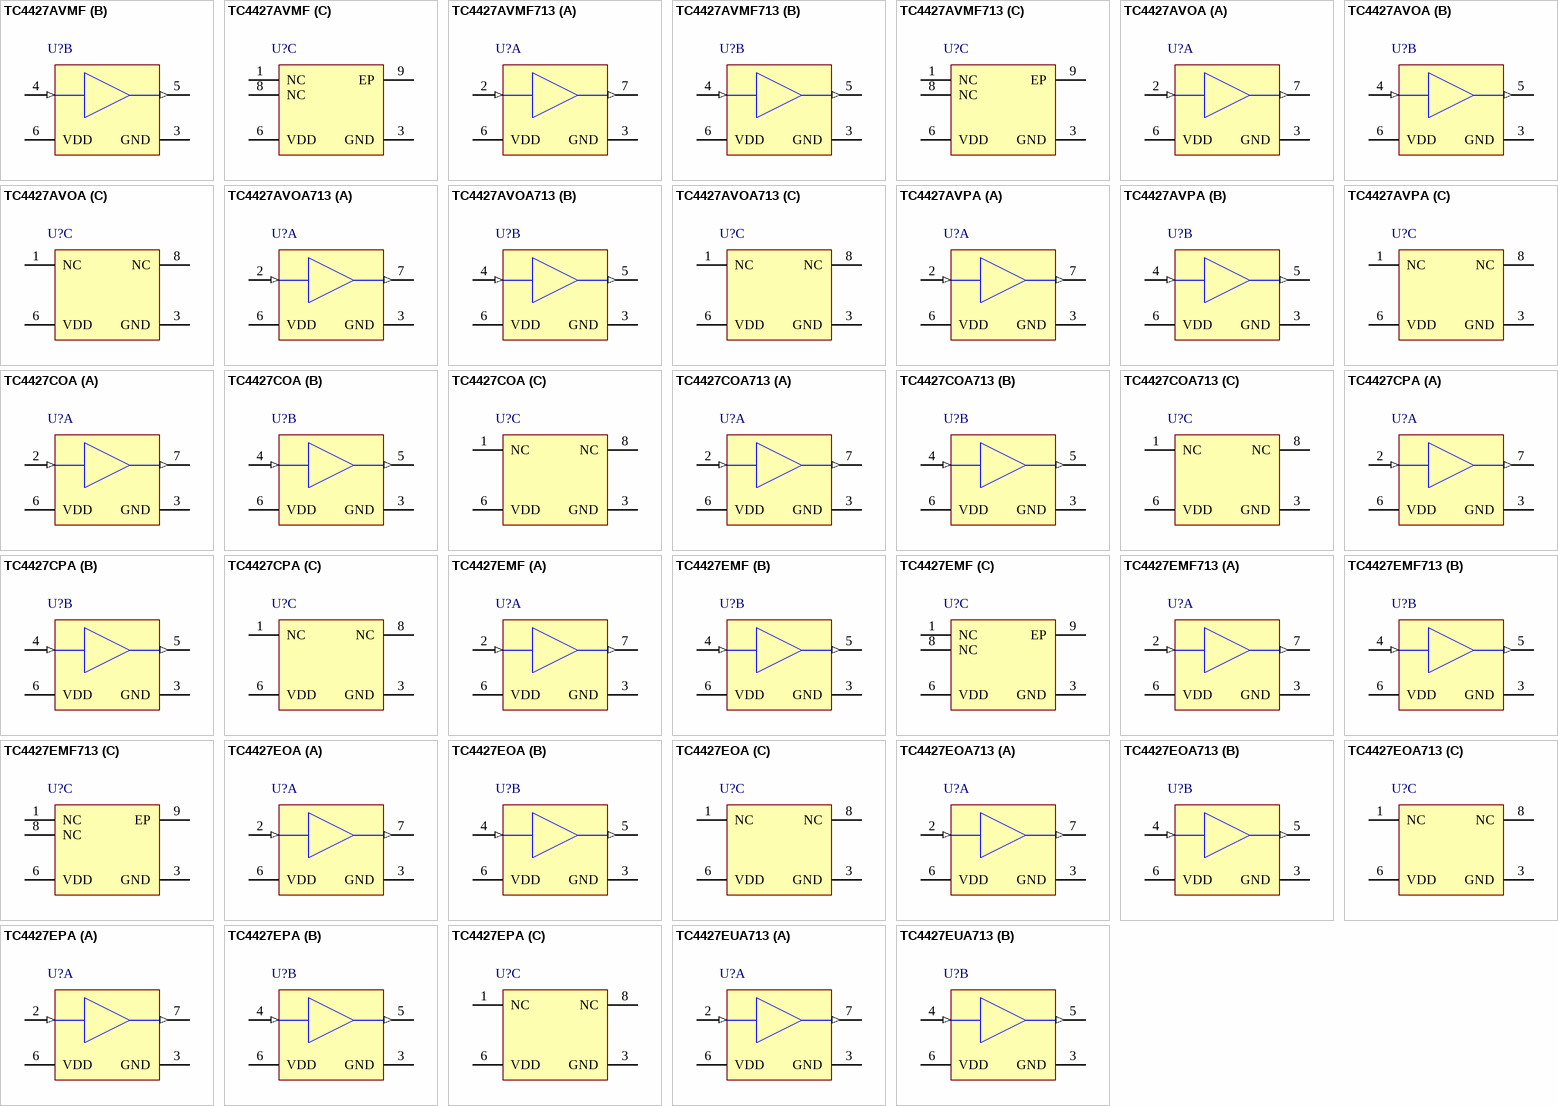
[diagram p18: symbols TC4427AVMF to TC4427EUA713]

## TC4427AVMF
designator U?
1.5A Dual High-Speed Power MOSFET Driver, Non-Inverting, Extended Temperature; DatasheetVersion: revF, Jan-2006; PackageVersion: revBB, Aug-2009; PackageReference: DFN-MF8; PackageDescription: 8-Lead Plastic Dual Flat, No Lead Package (MF) - 3x3x0.9mm Body [DFN]; ComponentLink1Description: Manufacturer URL; ComponentLink1URL: http://www.microchip.com/; ComponentLink2Description: Datasheet; ComponentLink2URL: http://ww1.microchip.com/downloads/en/DeviceDoc/21423F.pdf; ComponentLink3Description: Package Specification; ComponentLink3URL: http://www.microchip.com/stellent/groups/techpub_sg/documents/packagingspec/en012702.pdf
footprint DFN-MF8 (SON, 8-Leads, Body 3x3mm, Pitch 0.65mm, Microchip Recommended)
pins on every part: 3 GND (power), 6 VDD (power)
part A pins: 2 INA (in), 7 OUTA (out)
part B pins: 4 INB (in), 5 OUTB (out)
part C pins: 1 NC, 8 NC, 9 EP

## TC4427AVMF713
designator U?
1.5A Dual High-Speed Power MOSFET Driver, Non-Inverting, Extended Temperature, Tape and Reel; DatasheetVersion: revF, Jan-2006; PackageVersion: revBB, Aug-2009; PackageReference: DFN-MF8; PackageDescription: 8-Lead Plastic Dual Flat, No Lead Package (MF) - 3x3x0.9mm Body [DFN]; ComponentLink1Description: Manufacturer URL; ComponentLink1URL: http://www.microchip.com/; ComponentLink2Description: Datasheet; ComponentLink2URL: http://ww1.microchip.com/downloads/en/DeviceDoc/21423F.pdf; ComponentLink3Description: Package Specification; ComponentLink3URL: http://www.microchip.com/stellent/groups/techpub_sg/documents/packagingspec/en012702.pdf
footprint DFN-MF8 (SON, 8-Leads, Body 3x3mm, Pitch 0.65mm, Microchip Recommended)
pins on every part: 3 GND (power), 6 VDD (power)
part A pins: 2 INA (in), 7 OUTA (out)
part B pins: 4 INB (in), 5 OUTB (out)
part C pins: 1 NC, 8 NC, 9 EP

## TC4427AVOA
designator U?
1.5A Dual High-Speed Power MOSFET Driver, Non-Inverting, Extended Temperature; DatasheetVersion: revF, Jan-2006; PackageVersion: revBB, Aug-2009; PackageReference: SOIC-OA8; PackageDescription: 8-Lead Plastic Small Outline (OA) - Narrow, 3.90mm Body [SOIC]; Code_IPC: SOIC127P600-8; ComponentLink1Description: Manufacturer URL; ComponentLink1URL: http://www.microchip.com/; ComponentLink2Description: Datasheet; ComponentLink2URL: http://ww1.microchip.com/downloads/en/DeviceDoc/21423F.pdf; ComponentLink3Description: Package Specification; ComponentLink3URL: http://www.microchip.com/stellent/groups/techpub_sg/documents/packagingspec/en012702.pdf
footprint SOIC-OA8_N (SOIC, 8-Leads, Body 4.9x3.9mm, Pitch 1.27mm, IPC Medium Density)
footprint SOIC-OA8_L (SOIC, 8-Leads, Body 4.9x3.9mm, Pitch 1.27mm, IPC High Density)
footprint SOIC-OA8_M (SOIC, 8-Leads, Body 4.9x3.9mm, Pitch 1.27mm, IPC Low Density)
pins on every part: 3 GND (power), 6 VDD (power)
part A pins: 2 INA (in), 7 OUTA (out)
part B pins: 4 INB (in), 5 OUTB (out)
part C pins: 1 NC, 8 NC

## TC4427AVOA713
designator U?
1.5A Dual High-Speed Power MOSFET Driver, Non-Inverting, Extended Temperature, Tape and Reel; DatasheetVersion: revF, Jan-2006; PackageVersion: revBB, Aug-2009; PackageReference: SOIC-OA8; PackageDescription: 8-Lead Plastic Small Outline (OA) - Narrow, 3.90mm Body [SOIC]; Code_IPC: SOIC127P600-8; ComponentLink1Description: Manufacturer URL; ComponentLink1URL: http://www.microchip.com/; ComponentLink2Description: Datasheet; ComponentLink2URL: http://ww1.microchip.com/downloads/en/DeviceDoc/21423F.pdf; ComponentLink3Description: Package Specification; ComponentLink3URL: http://www.microchip.com/stellent/groups/techpub_sg/documents/packagingspec/en012702.pdf
footprint SOIC-OA8_N (SOIC, 8-Leads, Body 4.9x3.9mm, Pitch 1.27mm, IPC Medium Density)
footprint SOIC-OA8_L (SOIC, 8-Leads, Body 4.9x3.9mm, Pitch 1.27mm, IPC High Density)
footprint SOIC-OA8_M (SOIC, 8-Leads, Body 4.9x3.9mm, Pitch 1.27mm, IPC Low Density)
pins on every part: 3 GND (power), 6 VDD (power)
part A pins: 2 INA (in), 7 OUTA (out)
part B pins: 4 INB (in), 5 OUTB (out)
part C pins: 1 NC, 8 NC

## TC4427AVPA
designator U?
1.5A Dual High-Speed Power MOSFET Driver, Non-Inverting, Extended Temperature; DatasheetVersion: revF, Jan-2006; PackageVersion: revBB, Aug-2009; PackageReference: PDIP300-PA8; PackageDescription: 8-Lead Plastic Dual In-Line (PA) - 300 mil Body [PDIP]; Code_JEDEC: MS-001-BA; ComponentLink1Description: Manufacturer URL; ComponentLink1URL: http://www.microchip.com/; ComponentLink2Description: Datasheet; ComponentLink2URL: http://ww1.microchip.com/downloads/en/DeviceDoc/21423F.pdf; ComponentLink3Description: Package Specification; ComponentLink3URL: http://www.microchip.com/stellent/groups/techpub_sg/documents/packagingspec/en012702.pdf
footprint PDIP300-PA8 (DIP, 8-Leads, Row Spacing 7.62mm, Pitch 2.54mm, Body 9.5x6.6mm)
pins on every part: 3 GND (power), 6 VDD (power)
part A pins: 2 INA (in), 7 OUTA (out)
part B pins: 4 INB (in), 5 OUTB (out)
part C pins: 1 NC, 8 NC

## TC4427COA
designator U?
1.5A Dual High-Speed Power MOSFET Driver, Non-Inverting, Commercial Temperature; DatasheetVersion: revD, Jan-2006; PackageVersion: revBB, Aug-2009; PackageReference: SOIC-OA8; PackageDescription: 8-Lead Plastic Small Outline (OA) - Narrow, 3.90mm Body [SOIC]; Code_IPC: SOIC127P600-8; ComponentLink1Description: Manufacturer URL; ComponentLink1URL: http://www.microchip.com/; ComponentLink2Description: Datasheet; ComponentLink2URL: http://ww1.microchip.com/downloads/en/DeviceDoc/21422D.pdf; ComponentLink3Description: Package Specification; ComponentLink3URL: http://www.microchip.com/stellent/groups/techpub_sg/documents/packagingspec/en012702.pdf
footprint SOIC-OA8_N (SOIC, 8-Leads, Body 4.9x3.9mm, Pitch 1.27mm, IPC Medium Density)
footprint SOIC-OA8_L (SOIC, 8-Leads, Body 4.9x3.9mm, Pitch 1.27mm, IPC High Density)
footprint SOIC-OA8_M (SOIC, 8-Leads, Body 4.9x3.9mm, Pitch 1.27mm, IPC Low Density)
pins on every part: 3 GND (power), 6 VDD (power)
part A pins: 2 INA (in), 7 OUTA (out)
part B pins: 4 INB (in), 5 OUTB (out)
part C pins: 1 NC, 8 NC

## TC4427COA713
designator U?
1.5A Dual High-Speed Power MOSFET Driver, Non-Inverting, Commercial Temperature, Tape and Reel; DatasheetVersion: revD, Jan-2006; PackageVersion: revBB, Aug-2009; PackageReference: SOIC-OA8; PackageDescription: 8-Lead Plastic Small Outline (OA) - Narrow, 3.90mm Body [SOIC]; Code_IPC: SOIC127P600-8; ComponentLink1Description: Manufacturer URL; ComponentLink1URL: http://www.microchip.com/; ComponentLink2Description: Datasheet; ComponentLink2URL: http://ww1.microchip.com/downloads/en/DeviceDoc/21422D.pdf; ComponentLink3Description: Package Specification; ComponentLink3URL: http://www.microchip.com/stellent/groups/techpub_sg/documents/packagingspec/en012702.pdf
footprint SOIC-OA8_N (SOIC, 8-Leads, Body 4.9x3.9mm, Pitch 1.27mm, IPC Medium Density)
footprint SOIC-OA8_L (SOIC, 8-Leads, Body 4.9x3.9mm, Pitch 1.27mm, IPC High Density)
footprint SOIC-OA8_M (SOIC, 8-Leads, Body 4.9x3.9mm, Pitch 1.27mm, IPC Low Density)
pins on every part: 3 GND (power), 6 VDD (power)
part A pins: 2 INA (in), 7 OUTA (out)
part B pins: 4 INB (in), 5 OUTB (out)
part C pins: 1 NC, 8 NC

## TC4427CPA
designator U?
1.5A Dual High-Speed Power MOSFET Driver, Non-Inverting, Commercial Temperature; DatasheetVersion: revD, Jan-2006; PackageVersion: revBB, Aug-2009; PackageReference: PDIP300-PA8; PackageDescription: 8-Lead Plastic Dual In-Line (PA) - 300 mil Body [PDIP]; Code_JEDEC: MS-001-BA; ComponentLink1Description: Manufacturer URL; ComponentLink1URL: http://www.microchip.com/; ComponentLink2Description: Datasheet; ComponentLink2URL: http://ww1.microchip.com/downloads/en/DeviceDoc/21422D.pdf; ComponentLink3Description: Package Specification; ComponentLink3URL: http://www.microchip.com/stellent/groups/techpub_sg/documents/packagingspec/en012702.pdf
footprint PDIP300-PA8 (DIP, 8-Leads, Row Spacing 7.62mm, Pitch 2.54mm, Body 9.5x6.6mm)
pins on every part: 3 GND (power), 6 VDD (power)
part A pins: 2 INA (in), 7 OUTA (out)
part B pins: 4 INB (in), 5 OUTB (out)
part C pins: 1 NC, 8 NC

## TC4427EMF
designator U?
1.5A Dual High-Speed Power MOSFET Driver, Non-Inverting, Industrial Temperature; DatasheetVersion: revD, Jan-2006; PackageVersion: revBB, Aug-2009; PackageReference: DFN-MF8; PackageDescription: 8-Lead Plastic Dual Flat, No Lead Package (MF) - 3x3x0.9mm Body [DFN]; ComponentLink1Description: Manufacturer URL; ComponentLink1URL: http://www.microchip.com/; ComponentLink2Description: Datasheet; ComponentLink2URL: http://ww1.microchip.com/downloads/en/DeviceDoc/21422D.pdf; ComponentLink3Description: Package Specification; ComponentLink3URL: http://www.microchip.com/stellent/groups/techpub_sg/documents/packagingspec/en012702.pdf
footprint DFN-MF8 (SON, 8-Leads, Body 3x3mm, Pitch 0.65mm, Microchip Recommended)
pins on every part: 3 GND (power), 6 VDD (power)
part A pins: 2 INA (in), 7 OUTA (out)
part B pins: 4 INB (in), 5 OUTB (out)
part C pins: 1 NC, 8 NC, 9 EP

## TC4427EMF713
designator U?
1.5A Dual High-Speed Power MOSFET Driver, Non-Inverting, Industrial Temperature, Tape and Reel; DatasheetVersion: revD, Jan-2006; PackageVersion: revBB, Aug-2009; PackageReference: DFN-MF8; PackageDescription: 8-Lead Plastic Dual Flat, No Lead Package (MF) - 3x3x0.9mm Body [DFN]; ComponentLink1Description: Manufacturer URL; ComponentLink1URL: http://www.microchip.com/; ComponentLink2Description: Datasheet; ComponentLink2URL: http://ww1.microchip.com/downloads/en/DeviceDoc/21422D.pdf; ComponentLink3Description: Package Specification; ComponentLink3URL: http://www.microchip.com/stellent/groups/techpub_sg/documents/packagingspec/en012702.pdf
footprint DFN-MF8 (SON, 8-Leads, Body 3x3mm, Pitch 0.65mm, Microchip Recommended)
pins on every part: 3 GND (power), 6 VDD (power)
part A pins: 2 INA (in), 7 OUTA (out)
part B pins: 4 INB (in), 5 OUTB (out)
part C pins: 1 NC, 8 NC, 9 EP